# Altium schematic symbol library NXFT15XV103FA2B150.SchLib: 1 symbol
Pins are listed as number, name and electrical type; pins without a type are passive.

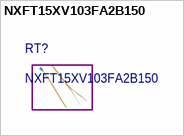
[diagram p0: symbol NXFT15XV103FA2B150]

## NXFT15XV103FA2B150
designator RT?
NTC (Negative Temperature Coefficient) Thermistors 10k Ohm 1% 150mm